# EAGLE library part OPA2335 (library untitled)
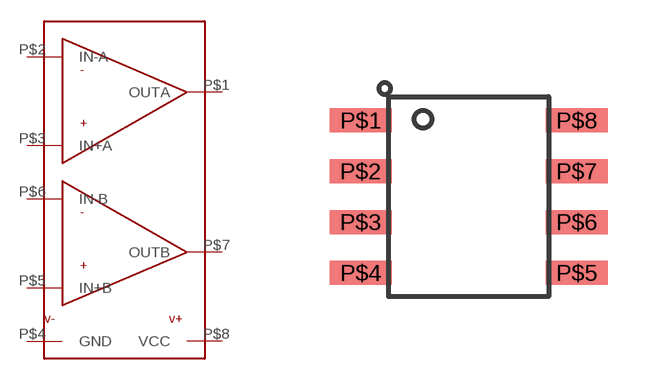
[diagram p20: symbol with the pads of SO8; footprint SO8]

Designator prefix -

## OPA2335  [SO8]
P$1  OUTA
P$2  IN-A
P$3  IN+A
P$4  GND
P$5  IN+B
P$6  IN-B
P$7  OUTB
P$8  VCC

## Footprint SO8 (pad centres in mm)
smd 1.55 x 0.6: P$1 -2.7,1.905; P$2 -2.705,0.635; P$3 -2.705,-0.635; P$4 -2.7,-1.905; P$5 2.7,-1.905; P$6 2.7,-0.635; P$7 2.7,0.635; P$8 2.7,1.905